# EAGLE library part IC-DCDC-MAX662 (library mylib)
SUPPLY CHARGE PUMP
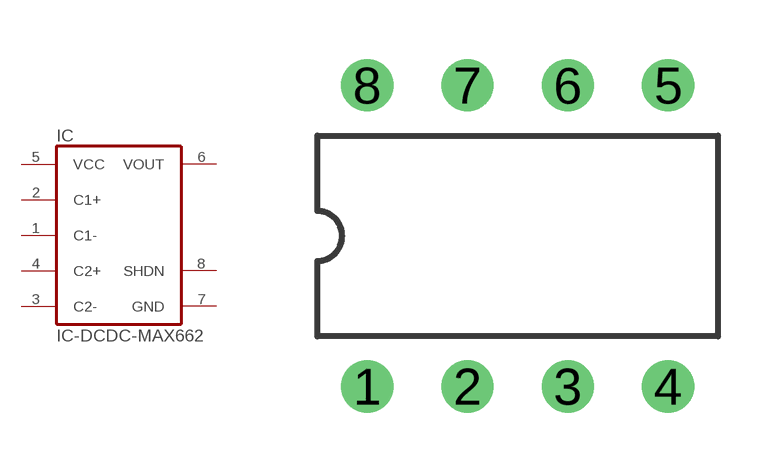
[diagram p55: symbol with the pads of IC-SOCKET-DIL-08; footprint IC-SOCKET-DIL-08]

Designator prefix IC

## IC-DCDC-MAX662-DIP  [IC-SOCKET-DIL-08]
1  C1-  pas
2  C1+  pas
3  C2-  pas
4  C2+  pas
5  VCC  pwr
6  VOUT  sup
7  GND  pwr
8  SHDN  in

## Footprint IC-SOCKET-DIL-08 (pad centres in mm)
Dual In Line package type P
drill 0.813: 1 -3.81,-3.81; 2 -1.27,-3.81; 3 1.27,-3.81; 4 3.81,-3.81; 5 3.81,3.81; 6 1.27,3.81; 7 -1.27,3.81; 8 -3.81,3.81